# Altium footprint library 691 329 300 0xx.PcbLib: 6 footprints
Each footprint in its own frame and in the unit in brackets; x right, y up, seen from the top. Pads: shape width x height; smd on the part's side, far side on the other; paste and mask are expansions set on the pad; w line width, h text height; cw(c..) or ccw(c..) is an arc to the next point about the centre after c.
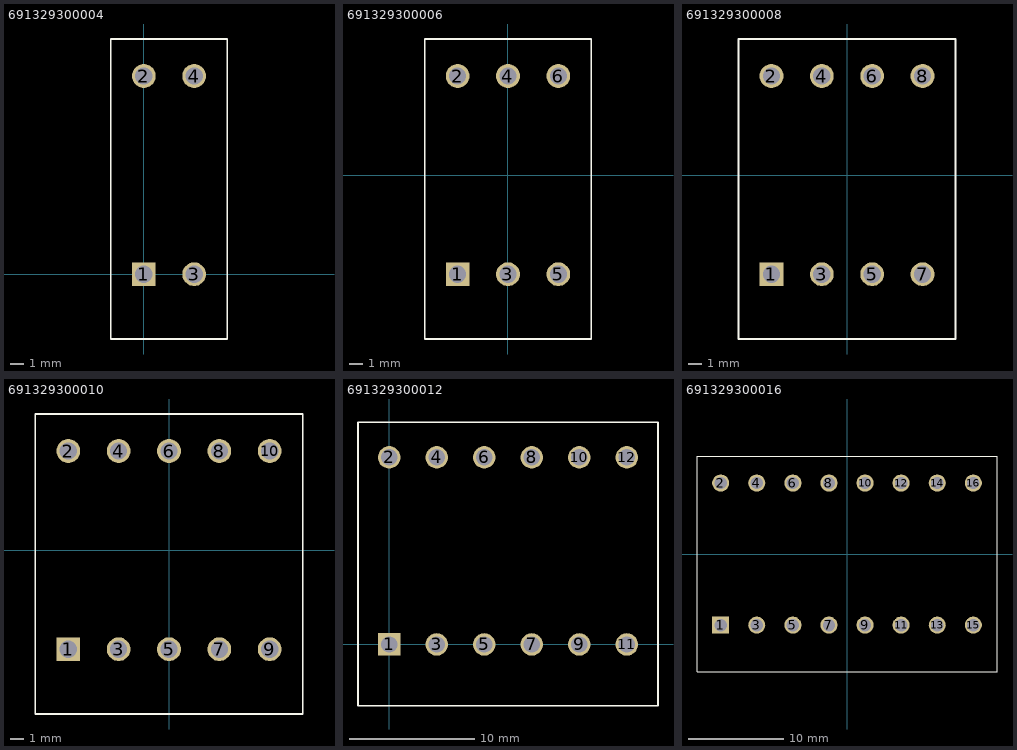
[diagram p0: the footprints below, top view; thin cyan lines are the x and y axes]

## 691329300004 [mm] "3,81mm - PCB - Dual row - Vertical - 04p"
height 22
pads (4):
  rect 1.8x1.8 hole 1.3: 1(0,0)
  round 1.8 hole 1.3: 2(0,15) 3(3.81,0) 4(3.81,15)
Top Overlay:
  lines w0.127: -2.5,-4.9 -2.5,17.8 2.1,17.8 6.31,17.8 6.31,-4.9 -2.5,-4.9
3D body: height 22.01, standoff -3.49, extent -2.5,-4.9 6.31,17.8

## 691329300006 [mm] "3,81mm - PCB - Dual row - Vertical - 06p"
height 22
pads (6):
  rect 1.8x1.8 hole 1.3: 1(-3.81,-7.5)
  round 1.8 hole 1.3: 2(-3.81,7.5) 3(0,-7.5) 4(0,7.5) 5(3.81,-7.5) 6(3.81,7.5)
Top Overlay:
  lines w0.127: -2.3,10.3 2.1,10.3 ; 1.51,10.3 6.31,10.3 6.31,-12.4 -6.31,-12.4 -6.31,10.3 -1.71,10.3 2.3,10.3
3D body: height 22.01, standoff -3.49, extent -6.31,-12.4 6.31,10.3

## 691329300008 [mm] "3,81mm - PCB - Dual row - Vertical - 08p"
height 22
pads (8):
  rect 1.8x1.8 hole 1.3: 1(-5.715,-7.5)
  round 1.8 hole 1.3: 2(-5.715,7.5) 3(-1.905,-7.5) 4(-1.905,7.5) 5(1.905,-7.5) 6(1.905,7.5) 7(5.715,-7.5) 8(5.715,7.5)
Top Overlay:
  lines w0.127: -4.205,10.3 0.195,10.3 4.205,10.3 ; -0.395,10.3 4.005,10.3 ; 0.395,10.3 -3.615,10.3 -8.215,10.3 -8.215,-12.4 8.215,-12.4 8.215,10.3 3.415,10.3
3D body: height 22.01, standoff -3.49, extent -8.215,-12.4 8.215,10.3

## 691329300010 [mm] "3,81mm - PCB - Dual row - Vertical - 10p"
height 22
pads (10):
  rect 1.8x1.8 hole 1.3: 1(-7.62,-7.5)
  round 1.8 hole 1.3: 2(-7.62,7.5) 3(-3.81,-7.5) 4(-3.81,7.5) 5(0,-7.5) 6(0,7.5) 7(3.81,-7.5) 8(3.81,7.5) 9(7.62,-7.5) 10(7.62,7.5)
Top Overlay:
  lines w0.127: -6.11,10.3 -1.71,10.3 2.3,10.3 ; -2.3,10.3 2.1,10.3 6.11,10.3 ; -1.51,10.3 -5.52,10.3 -10.12,10.3 -10.12,-12.4 10.12,-12.4 10.12,10.3 5.32,10.3 ; 1.51,10.3 5.91,10.3
3D body: height 22.01, standoff -3.49, extent -10.12,-12.4 10.12,10.3

## 691329300012 [mm] "3,81mm - PCB - Dual row - Vertical - 12p"
height 22
pads (12):
  rect 1.8x1.8 hole 1.3: 1(0,0)
  round 1.8 hole 1.3: 2(0,15) 3(3.81,0) 4(3.81,15) 5(7.62,0) 6(7.62,15) 7(11.43,0) 8(11.43,15) 9(15.24,0) 10(15.24,15) 11(19.05,0) 12(19.05,15)
Top Overlay:
  lines w0.127: 1.51,17.8 5.91,17.8 9.92,17.8 ; 5.32,17.8 9.72,17.8 13.73,17.8 ; 6.11,17.8 2.1,17.8 -2.5,17.8 -2.5,-4.9 21.55,-4.9 21.55,17.8 16.75,17.8 ; 9.13,17.8 13.53,17.8 17.54,17.8 ; 12.94,17.8 17.34,17.8
3D body: height 22.01, standoff -3.49, extent -2.5,-4.9 21.55,17.8

## 691329300016 [mm] "3,81mm - PCB - Dual row - Vertical - 16p"
height 22
pads (16):
  rect 1.8x1.8 hole 1.3: 1(-13.335,-7.5)
  round 1.8 hole 1.3: 2(-13.335,7.5) 3(-9.525,-7.5) 4(-9.525,7.5) 5(-5.715,-7.5) 6(-5.715,7.5) 7(-1.905,-7.5) 8(-1.905,7.5) 9(1.905,-7.5) 10(1.905,7.5) 11(5.715,-7.5) 12(5.715,7.5) 13(9.525,-7.5) 14(9.525,7.5) 15(13.335,-7.5) 16(13.335,7.5)
Top Overlay:
  lines w0.127: -11.825,10.3 -3.415,10.3 ; -8.015,10.3 0.395,10.3 ; -7.225,10.3 -15.835,10.3 -15.835,-12.4 15.835,-12.4 15.835,10.3 11.035,10.3 ; -4.205,10.3 4.205,10.3 ; -0.395,10.3 8.015,10.3 ; 3.415,10.3 11.825,10.3 ; 7.225,10.3 11.625,10.3
3D body: height 22.01, standoff -3.49, extent -15.835,-12.4 15.835,10.3